# Altium footprint library Analog Sensor.PcbLib: 6 footprints
Each footprint in its own frame and in the unit in brackets; x right, y up, seen from the top. Pads: shape width x height; smd on the part's side, far side on the other; paste and mask are expansions set on the pad; w line width, h text height; cw(c..) or ccw(c..) is an arc to the next point about the centre after c.
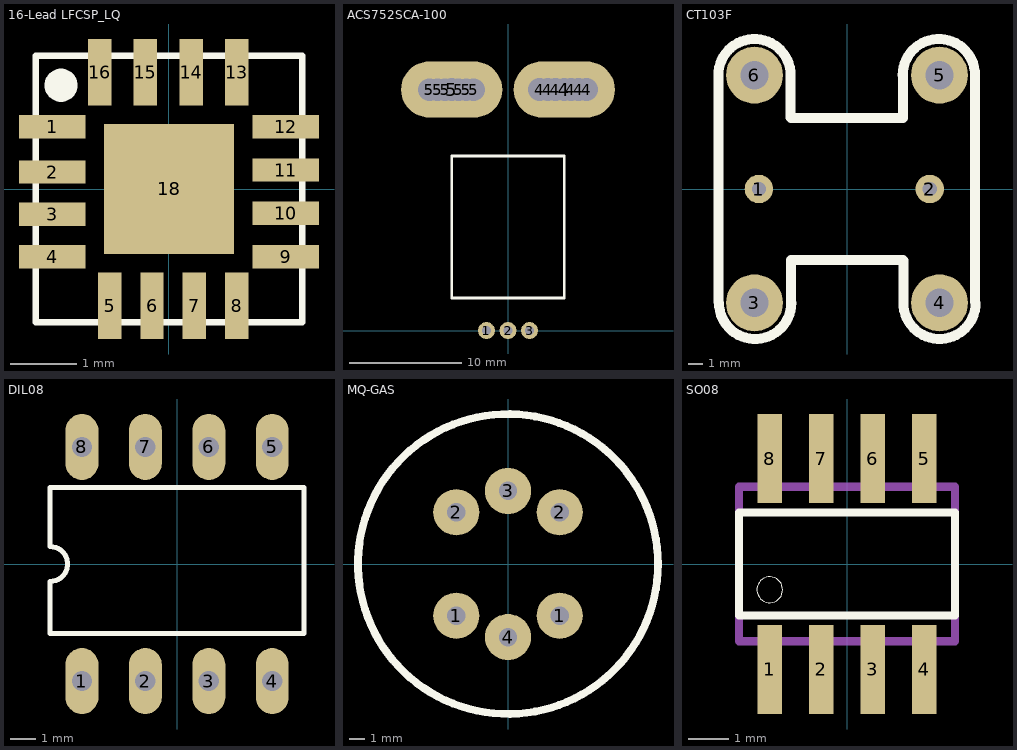
[diagram p0: the footprints below, top view; thin cyan lines are the x and y axes]

## 16-Lead LFCSP_LQ [mm]
height 1.5
pads (18):
  rect 1x0.35 smd: 1(-1.75,0.934) 2(-1.75,0.254) 3(-1.75,-0.381) 4(-1.75,-1.016) 9(1.75,-1.016) 10(1.75,-0.366) 11(1.75,0.284) 12(1.75,0.934)
  rect 0.35x1 smd: 5(-0.889,-1.75) 6(-0.254,-1.75) 7(0.381,-1.75) 8(1.016,-1.75) 13(1.017,1.75) 14(0.331,1.75) 15(-0.354,1.75) 16(-1.04,1.75)
  rect 1.95x1.95 smd: 18(0,0)
  round 0.5 on Top Overlay: ""(-1.619,1.556)
Top Overlay:
  lines w0.1: -2,-2 -2,2 2,2 2,-2 -2,-2
3D body "16-Lead LFCSP_LQ.step": height 1.48, standoff 0, extent -2,-2.01 2.01,2

## ACS752SCA-100 [mil]
height 295.28
pads (17):
  round 59.06 hole 31.5: 1(-75.2,0) 2(0,0) 3(75.2,0)
  round 70 hole 80: 4(110.78,842.52) 4(139,842.52) 4(165.52,842.52) 4(220.26,842.52) 4(247,842.52) 4(275,842.52) 5(-275,842) 5(-246,842) 5(-220,842) 5(-173,842) 5(-146,842) 5(-120,842)
  oval 353.63x196.63 hole 80: 4(196.85,842.52) 5(-196.85,842.52)
Top Overlay:
  lines w10: -196.85,114.17 196.85,114.17 196.85,610.24 -196.85,610.24 -196.85,114.17
3D body: height 159.45, standoff -118.11, extent -9.84,-7.48 9.84,7.48
3D body: height 118.11, standoff -125.98, extent -277.56,811.02 -116.14,874.02
3D body: height 118.11, standoff -125.98, extent 116.14,811.02 277.56,874.02
3D body: height 159.45, standoff -118.11, extent -85.04,-7.48 -65.35,7.48
3D body: height 159.45, standoff -118.11, extent 65.35,-7.48 85.04,7.48
3D body: height 177.17, standoff 118.11, extent 116.14,283.46 277.56,874.02
3D body: height 50, standoff 0, extent -100,262.2 100,462.2
3D body: height 177.17, standoff 118.11, extent -277.56,283.46 -116.14,874.02
3D body: height 174.41, standoff 159.45, extent -85.04,-7.48 -65.35,114.17
3D body: height 174.41, standoff 159.45, extent -9.84,-7.48 9.84,114.17
3D body: height 174.41, standoff 159.45, extent 65.35,-7.48 85.04,114.17

## CT103F [mm]
pads (6):
  round 2 hole 1: 1(-6.19,0) 2(5.81,0)
  round 4 hole 2: 3(-6.5,-8) 4(6.5,-8) 5(6.5,8) 6(-6.5,8)
Top Overlay:
  lines w0.7: -9.04,-7.952 -9.04,7.998 cw(c-6.5,8) -3.96,7.998 -3.96,5.04 ; -8.994,-7.998 ccw(c-6.454,-8) -3.914,-7.998 ; -3.92,-7.998 -3.92,-5 3.92,-5 ; -3.92,5 3.92,5 3.92,7.998 ; 3.914,7.998 cw(c6.454,8) 8.994,7.998 8.994,-7.952 ; 3.96,-5.04 3.96,-7.998 ccw(c6.5,-8) 9.04,-7.998
3D body "CT103.STEP": height 19.2, standoff -3.8, extent -9.19,-5.1 8.81,5.1

## DIL08 [mil]
pads (8):
  oval 52x104 hole 32: 1(-150,-184.45) 2(-50,-184.45) 3(50,-184.45) 4(150,-184.45) 5(150,184.45) 6(50,184.45) 7(-50,184.45) 8(-150,184.45)
Top Overlay:
  lines w8: -200,-109.45 -200,-27.5 ccw(c-200,0) -200,27.5 -200,120.55 200,120.55 200,-109.45 -200,-109.45
3D body "User Library-DIP8.step": height 183.36, standoff -116.32, extent -216.53,-204.89 216.54,204.9

## MQ-GAS [mm]
pads (6):
  round 3 hole 1.2: 1(-3.359,-3.362) 1(3.359,-3.362) 2(-3.359,3.359) 2(3.359,3.359) 3(0,4.747) 4(0,-4.75)
Top Overlay:
  circle w0.5: c0,0 r9.75
3D body "User Library-MQ135.step": height 14.3, standoff -7.2, extent -9.75,-9.731 9.75,9.731

## SO08 [mm]
pads (8):
  rect 0.6x2.2 smd: 1(-1.905,-2.6) 2(-0.635,-2.6) 3(0.635,-2.6) 4(1.905,-2.6) 5(1.905,2.6) 6(0.635,2.6) 7(-0.635,2.6) 8(-1.905,2.6)
Top Overlay:
  circle w0: c-1.905,-0.635 r0.318
  lines w0.203: -2.667,-1.27 2.667,-1.27 2.667,1.27 -2.667,1.27 -2.667,-1.27
Mechanical 1:
  region: -2.153,-2 -1.66,-2 -1.66,-3.104 -2.153,-3.104
  region: -0.881,-2 -0.39,-2 -0.39,-3.102 -0.881,-3.102
  region: 0.39,-2 0.88,-2 0.88,-3.101 0.39,-3.101
  region: 1.662,-2 2.15,-2 2.15,-3.104 1.662,-3.104
  region: 1.662,3.1 2.15,3.1 2.15,2.002 1.662,2.002
  region: 0.39,3.1 0.88,3.1 0.88,2.002 0.39,2.002
  region: -0.881,3.1 -0.39,3.1 -0.39,2.002 -0.881,2.002
  region: -2.152,3.1 -1.66,3.1 -1.66,2.001 -2.152,2.001
  lines w0.203: -2.667,-1.905 2.667,-1.905 2.667,1.905 -2.667,1.905 -2.667,-1.905
3D body "User Library-so8-3.step": height 1.7, standoff 0, extent -2.45,-3 2.45,3